# Altium schematic symbol library Terminal Block 8.SchLib: 1 symbol
Pins are listed as number, name and electrical type; pins without a type are passive.

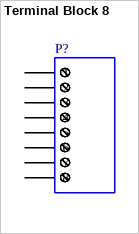
[diagram p0: symbol Terminal Block 8]

## Terminal Block 8
designator P?
Screw terminal block, 8-Way
pins: 1, 2, 3, 4, 5, 6, 7, 8